# Altium footprint library Connector_Samtec_HLE_THT.PcbLib: 141 footprints (part 9 of 9)
Each footprint in its own frame and in the unit in brackets; x right, y up, seen from the top. Pads: shape width x height; smd on the part's side, far side on the other; paste and mask are expansions set on the pad; w line width, h text height; cw(c..) or ccw(c..) is an arc to the next point about the centre after c.
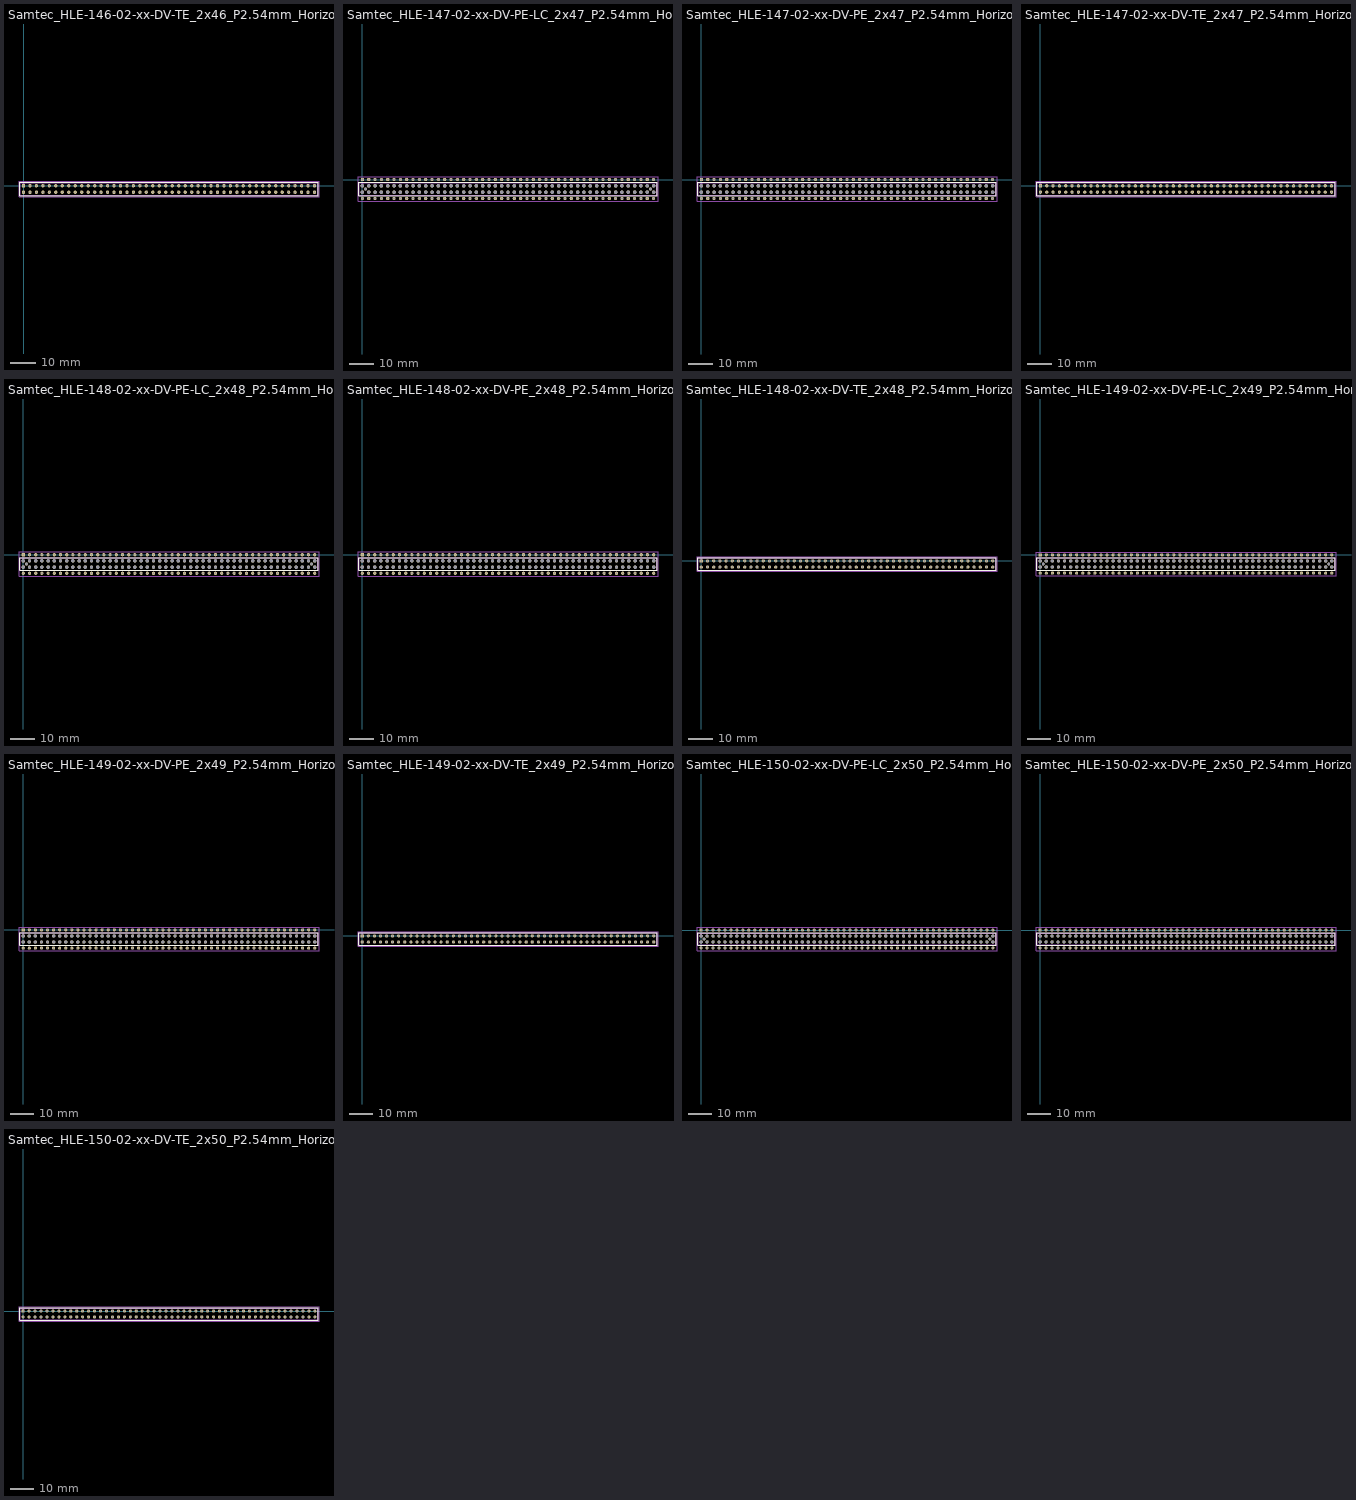
[diagram p8: the footprints below, top view; thin cyan lines are the x and y axes]

## Samtec_HLE-146-02-xx-DV-TE_2x46_P2.54mm_Horizontal [mm]
pads (92):
  rrect19% 1.31x1.31 hole 0.71: 1(0,0)
  round 1.31 hole 0.71: 2(0,-2.54) 3(2.54,0) 4(2.54,-2.54) 5(5.08,0) 6(5.08,-2.54) 7(7.62,0) 8(7.62,-2.54) 9(10.16,0) 10(10.16,-2.54) 11(12.7,0) 12(12.7,-2.54) 13(15.24,0) 14(15.24,-2.54) 15(17.78,0) 16(17.78,-2.54) 17(20.32,0) 18(20.32,-2.54) 19(22.86,0) 20(22.86,-2.54) 21(25.4,0) 22(25.4,-2.54) 23(27.94,0) 24(27.94,-2.54) 25(30.48,0) 26(30.48,-2.54) 27(33.02,0) 28(33.02,-2.54) 29(35.56,0) 30(35.56,-2.54) 31(38.1,0) 32(38.1,-2.54) 33(40.64,0) 34(40.64,-2.54) 35(43.18,0) 36(43.18,-2.54) 37(45.72,0) 38(45.72,-2.54) 39(48.26,0) 40(48.26,-2.54) 41(50.8,0) 42(50.8,-2.54) 43(53.34,0) 44(53.34,-2.54) 45(55.88,0) 46(55.88,-2.54) 47(58.42,0) 48(58.42,-2.54) 49(60.96,0) 50(60.96,-2.54) 51(63.5,0) 52(63.5,-2.54) 53(66.04,0) 54(66.04,-2.54) 55(68.58,0) 56(68.58,-2.54) 57(71.12,0) 58(71.12,-2.54) 59(73.66,0) 60(73.66,-2.54) 61(76.2,0) 62(76.2,-2.54) 63(78.74,0) 64(78.74,-2.54) 65(81.28,0) 66(81.28,-2.54) 67(83.82,0) 68(83.82,-2.54) 69(86.36,0) 70(86.36,-2.54) 71(88.9,0) 72(88.9,-2.54) 73(91.44,0) 74(91.44,-2.54) 75(93.98,0) 76(93.98,-2.54) 77(96.52,0) 78(96.52,-2.54) 79(99.06,0) 80(99.06,-2.54) 81(101.6,0) 82(101.6,-2.54) 83(104.14,0) 84(104.14,-2.54) 85(106.68,0) 86(106.68,-2.54) 87(109.22,0) 88(109.22,-2.54) 89(111.76,0) 90(111.76,-2.54) 91(114.3,0) 92(114.3,-2.54)
F.SilkS:
  lines w0.254: -1.38,-3.92 115.68,-3.92 115.68,1.38 -1.38,1.38 -1.38,-3.92
Top Assembly:
  lines w0.254: -0.5,1.27 0,0.563 0.5,1.27 ; -1.27,-3.81 115.57,-3.81 115.57,1.27 -1.27,1.27 -1.27,-3.81
  text "'.Designator'" at 53.103,-3.95 h1
Top Courtyard:
  lines w0.254: -1.77,-4.32 116.07,-4.32 116.07,1.77 -1.77,1.77 -1.77,-4.32
Top Designator:
  text ".Designator" at 49.532,-1.783 h1.52

## Samtec_HLE-147-02-xx-DV-PE-LC_2x47_P2.54mm_Horizontal [mm]
pads (190):
  rrect19% 1.31x1.31 hole 0.71: 1(0,0)
  round 1.31 hole 0.71: 2(0,-7.62) 3(2.54,0) 4(2.54,-7.62) 5(5.08,0) 6(5.08,-7.62) 7(7.62,0) 8(7.62,-7.62) 9(10.16,0) 10(10.16,-7.62) 11(12.7,0) 12(12.7,-7.62) 13(15.24,0) 14(15.24,-7.62) 15(17.78,0) 16(17.78,-7.62) 17(20.32,0) 18(20.32,-7.62) 19(22.86,0) 20(22.86,-7.62) 21(25.4,0) 22(25.4,-7.62) 23(27.94,0) 24(27.94,-7.62) 25(30.48,0) 26(30.48,-7.62) 27(33.02,0) 28(33.02,-7.62) 29(35.56,0) 30(35.56,-7.62) 31(38.1,0) 32(38.1,-7.62) 33(40.64,0) 34(40.64,-7.62) 35(43.18,0) 36(43.18,-7.62) 37(45.72,0) 38(45.72,-7.62) 39(48.26,0) 40(48.26,-7.62) 41(50.8,0) 42(50.8,-7.62) 43(53.34,0) 44(53.34,-7.62) 45(55.88,0) 46(55.88,-7.62) 47(58.42,0) 48(58.42,-7.62) 49(60.96,0) 50(60.96,-7.62) 51(63.5,0) 52(63.5,-7.62) 53(66.04,0) 54(66.04,-7.62) 55(68.58,0) 56(68.58,-7.62) 57(71.12,0) 58(71.12,-7.62) 59(73.66,0) 60(73.66,-7.62) 61(76.2,0) 62(76.2,-7.62) 63(78.74,0) 64(78.74,-7.62) 65(81.28,0) 66(81.28,-7.62) 67(83.82,0) 68(83.82,-7.62) 69(86.36,0) 70(86.36,-7.62) 71(88.9,0) 72(88.9,-7.62) 73(91.44,0) 74(91.44,-7.62) 75(93.98,0) 76(93.98,-7.62) 77(96.52,0) 78(96.52,-7.62) 79(99.06,0) 80(99.06,-7.62) 81(101.6,0) 82(101.6,-7.62) 83(104.14,0) 84(104.14,-7.62) 85(106.68,0) 86(106.68,-7.62) 87(109.22,0) 88(109.22,-7.62) 89(111.76,0) 90(111.76,-7.62) 91(114.3,0) 92(114.3,-7.62) 93(116.84,0) 94(116.84,-7.62)
  round 1.4 hole 1.4: Un1(0,-2.54) Un2(0,-5.08) Un4(2.54,-2.54) Un5(2.54,-5.08) Un6(5.08,-2.54) Un7(5.08,-5.08) Un8(7.62,-2.54) Un9(7.62,-5.08) Un10(10.16,-2.54) Un11(10.16,-5.08) Un12(12.7,-2.54) Un13(12.7,-5.08) Un14(15.24,-2.54) Un15(15.24,-5.08) Un16(17.78,-2.54) Un17(17.78,-5.08) Un18(20.32,-2.54) Un19(20.32,-5.08) Un20(22.86,-2.54) Un21(22.86,-5.08) Un22(25.4,-2.54) Un23(25.4,-5.08) Un24(27.94,-2.54) Un25(27.94,-5.08) Un26(30.48,-2.54) Un27(30.48,-5.08) Un28(33.02,-2.54) Un29(33.02,-5.08) Un30(35.56,-2.54) Un31(35.56,-5.08) Un32(38.1,-2.54) Un33(38.1,-5.08) Un34(40.64,-2.54) Un35(40.64,-5.08) Un36(43.18,-2.54) Un37(43.18,-5.08) Un38(45.72,-2.54) Un39(45.72,-5.08) Un40(48.26,-2.54) Un41(48.26,-5.08) Un42(50.8,-2.54) Un43(50.8,-5.08) Un44(53.34,-2.54) Un45(53.34,-5.08) Un46(55.88,-2.54) Un47(55.88,-5.08) Un48(58.42,-2.54) Un49(58.42,-5.08) Un50(60.96,-2.54) Un51(60.96,-5.08) Un52(63.5,-2.54) Un53(63.5,-5.08) Un54(66.04,-2.54) Un55(66.04,-5.08) Un56(68.58,-2.54) Un57(68.58,-5.08) Un58(71.12,-2.54) Un59(71.12,-5.08) Un60(73.66,-2.54) Un61(73.66,-5.08) Un62(76.2,-2.54) Un63(76.2,-5.08) Un64(78.74,-2.54) Un65(78.74,-5.08) Un66(81.28,-2.54) Un67(81.28,-5.08) Un68(83.82,-2.54) Un69(83.82,-5.08) Un70(86.36,-2.54) Un71(86.36,-5.08) Un72(88.9,-2.54) Un73(88.9,-5.08) Un74(91.44,-2.54) Un75(91.44,-5.08) Un76(93.98,-2.54) Un77(93.98,-5.08) Un78(96.52,-2.54) Un79(96.52,-5.08) Un80(99.06,-2.54) Un81(99.06,-5.08) Un82(101.6,-2.54) Un83(101.6,-5.08) Un84(104.14,-2.54) Un85(104.14,-5.08) Un86(106.68,-2.54) Un87(106.68,-5.08) Un88(109.22,-2.54) Un89(109.22,-5.08) Un90(111.76,-2.54) Un91(111.76,-5.08) Un92(114.3,-2.54) Un93(114.3,-5.08) Un95(116.84,-2.54) Un96(116.84,-5.08)
  round 1.19 hole 1.19: Un3(1.27,-3.81) Un94(115.57,-3.81)
F.SilkS:
  lines w0.254: -1.38,-6.46 118.22,-6.46 118.22,-1.16 -1.38,-1.16 -1.38,-6.46
Top Assembly:
  lines w0.254: -0.5,-1.27 0,-1.977 0.5,-1.27 ; -1.27,-6.35 118.11,-6.35 118.11,-1.27 -1.27,-1.27 -1.27,-6.35
  text "'.Designator'" at 54.373,-6.49 h1
Top Courtyard:
  lines w0.254: -1.77,-8.78 118.61,-8.78 118.61,1.16 -1.77,1.16 -1.77,-8.78
Top Designator:
  text ".Designator" at 50.802,-4.318 h1.52

## Samtec_HLE-147-02-xx-DV-PE_2x47_P2.54mm_Horizontal [mm]
pads (188):
  rrect19% 1.31x1.31 hole 0.71: 1(0,0)
  round 1.31 hole 0.71: 2(0,-7.62) 3(2.54,0) 4(2.54,-7.62) 5(5.08,0) 6(5.08,-7.62) 7(7.62,0) 8(7.62,-7.62) 9(10.16,0) 10(10.16,-7.62) 11(12.7,0) 12(12.7,-7.62) 13(15.24,0) 14(15.24,-7.62) 15(17.78,0) 16(17.78,-7.62) 17(20.32,0) 18(20.32,-7.62) 19(22.86,0) 20(22.86,-7.62) 21(25.4,0) 22(25.4,-7.62) 23(27.94,0) 24(27.94,-7.62) 25(30.48,0) 26(30.48,-7.62) 27(33.02,0) 28(33.02,-7.62) 29(35.56,0) 30(35.56,-7.62) 31(38.1,0) 32(38.1,-7.62) 33(40.64,0) 34(40.64,-7.62) 35(43.18,0) 36(43.18,-7.62) 37(45.72,0) 38(45.72,-7.62) 39(48.26,0) 40(48.26,-7.62) 41(50.8,0) 42(50.8,-7.62) 43(53.34,0) 44(53.34,-7.62) 45(55.88,0) 46(55.88,-7.62) 47(58.42,0) 48(58.42,-7.62) 49(60.96,0) 50(60.96,-7.62) 51(63.5,0) 52(63.5,-7.62) 53(66.04,0) 54(66.04,-7.62) 55(68.58,0) 56(68.58,-7.62) 57(71.12,0) 58(71.12,-7.62) 59(73.66,0) 60(73.66,-7.62) 61(76.2,0) 62(76.2,-7.62) 63(78.74,0) 64(78.74,-7.62) 65(81.28,0) 66(81.28,-7.62) 67(83.82,0) 68(83.82,-7.62) 69(86.36,0) 70(86.36,-7.62) 71(88.9,0) 72(88.9,-7.62) 73(91.44,0) 74(91.44,-7.62) 75(93.98,0) 76(93.98,-7.62) 77(96.52,0) 78(96.52,-7.62) 79(99.06,0) 80(99.06,-7.62) 81(101.6,0) 82(101.6,-7.62) 83(104.14,0) 84(104.14,-7.62) 85(106.68,0) 86(106.68,-7.62) 87(109.22,0) 88(109.22,-7.62) 89(111.76,0) 90(111.76,-7.62) 91(114.3,0) 92(114.3,-7.62) 93(116.84,0) 94(116.84,-7.62)
  round 1.4 hole 1.4: Un1(0,-2.54) Un2(0,-5.08) Un3(2.54,-2.54) Un4(2.54,-5.08) Un5(5.08,-2.54) Un6(5.08,-5.08) Un7(7.62,-2.54) Un8(7.62,-5.08) Un9(10.16,-2.54) Un10(10.16,-5.08) Un11(12.7,-2.54) Un12(12.7,-5.08) Un13(15.24,-2.54) Un14(15.24,-5.08) Un15(17.78,-2.54) Un16(17.78,-5.08) Un17(20.32,-2.54) Un18(20.32,-5.08) Un19(22.86,-2.54) Un20(22.86,-5.08) Un21(25.4,-2.54) Un22(25.4,-5.08) Un23(27.94,-2.54) Un24(27.94,-5.08) Un25(30.48,-2.54) Un26(30.48,-5.08) Un27(33.02,-2.54) Un28(33.02,-5.08) Un29(35.56,-2.54) Un30(35.56,-5.08) Un31(38.1,-2.54) Un32(38.1,-5.08) Un33(40.64,-2.54) Un34(40.64,-5.08) Un35(43.18,-2.54) Un36(43.18,-5.08) Un37(45.72,-2.54) Un38(45.72,-5.08) Un39(48.26,-2.54) Un40(48.26,-5.08) Un41(50.8,-2.54) Un42(50.8,-5.08) Un43(53.34,-2.54) Un44(53.34,-5.08) Un45(55.88,-2.54) Un46(55.88,-5.08) Un47(58.42,-2.54) Un48(58.42,-5.08) Un49(60.96,-2.54) Un50(60.96,-5.08) Un51(63.5,-2.54) Un52(63.5,-5.08) Un53(66.04,-2.54) Un54(66.04,-5.08) Un55(68.58,-2.54) Un56(68.58,-5.08) Un57(71.12,-2.54) Un58(71.12,-5.08) Un59(73.66,-2.54) Un60(73.66,-5.08) Un61(76.2,-2.54) Un62(76.2,-5.08) Un63(78.74,-2.54) Un64(78.74,-5.08) Un65(81.28,-2.54) Un66(81.28,-5.08) Un67(83.82,-2.54) Un68(83.82,-5.08) Un69(86.36,-2.54) Un70(86.36,-5.08) Un71(88.9,-2.54) Un72(88.9,-5.08) Un73(91.44,-2.54) Un74(91.44,-5.08) Un75(93.98,-2.54) Un76(93.98,-5.08) Un77(96.52,-2.54) Un78(96.52,-5.08) Un79(99.06,-2.54) Un80(99.06,-5.08) Un81(101.6,-2.54) Un82(101.6,-5.08) Un83(104.14,-2.54) Un84(104.14,-5.08) Un85(106.68,-2.54) Un86(106.68,-5.08) Un87(109.22,-2.54) Un88(109.22,-5.08) Un89(111.76,-2.54) Un90(111.76,-5.08) Un91(114.3,-2.54) Un92(114.3,-5.08) Un93(116.84,-2.54) Un94(116.84,-5.08)
F.SilkS:
  lines w0.254: -1.38,-6.46 118.22,-6.46 118.22,-1.16 -1.38,-1.16 -1.38,-6.46
Top Assembly:
  lines w0.254: -0.5,-1.27 0,-1.977 0.5,-1.27 ; -1.27,-6.35 118.11,-6.35 118.11,-1.27 -1.27,-1.27 -1.27,-6.35
  text "'.Designator'" at 54.373,-6.49 h1
Top Courtyard:
  lines w0.254: -1.77,-8.78 118.61,-8.78 118.61,1.16 -1.77,1.16 -1.77,-8.78
Top Designator:
  text ".Designator" at 50.802,-4.318 h1.52

## Samtec_HLE-147-02-xx-DV-TE_2x47_P2.54mm_Horizontal [mm]
pads (94):
  rrect19% 1.31x1.31 hole 0.71: 1(0,0)
  round 1.31 hole 0.71: 2(0,-2.54) 3(2.54,0) 4(2.54,-2.54) 5(5.08,0) 6(5.08,-2.54) 7(7.62,0) 8(7.62,-2.54) 9(10.16,0) 10(10.16,-2.54) 11(12.7,0) 12(12.7,-2.54) 13(15.24,0) 14(15.24,-2.54) 15(17.78,0) 16(17.78,-2.54) 17(20.32,0) 18(20.32,-2.54) 19(22.86,0) 20(22.86,-2.54) 21(25.4,0) 22(25.4,-2.54) 23(27.94,0) 24(27.94,-2.54) 25(30.48,0) 26(30.48,-2.54) 27(33.02,0) 28(33.02,-2.54) 29(35.56,0) 30(35.56,-2.54) 31(38.1,0) 32(38.1,-2.54) 33(40.64,0) 34(40.64,-2.54) 35(43.18,0) 36(43.18,-2.54) 37(45.72,0) 38(45.72,-2.54) 39(48.26,0) 40(48.26,-2.54) 41(50.8,0) 42(50.8,-2.54) 43(53.34,0) 44(53.34,-2.54) 45(55.88,0) 46(55.88,-2.54) 47(58.42,0) 48(58.42,-2.54) 49(60.96,0) 50(60.96,-2.54) 51(63.5,0) 52(63.5,-2.54) 53(66.04,0) 54(66.04,-2.54) 55(68.58,0) 56(68.58,-2.54) 57(71.12,0) 58(71.12,-2.54) 59(73.66,0) 60(73.66,-2.54) 61(76.2,0) 62(76.2,-2.54) 63(78.74,0) 64(78.74,-2.54) 65(81.28,0) 66(81.28,-2.54) 67(83.82,0) 68(83.82,-2.54) 69(86.36,0) 70(86.36,-2.54) 71(88.9,0) 72(88.9,-2.54) 73(91.44,0) 74(91.44,-2.54) 75(93.98,0) 76(93.98,-2.54) 77(96.52,0) 78(96.52,-2.54) 79(99.06,0) 80(99.06,-2.54) 81(101.6,0) 82(101.6,-2.54) 83(104.14,0) 84(104.14,-2.54) 85(106.68,0) 86(106.68,-2.54) 87(109.22,0) 88(109.22,-2.54) 89(111.76,0) 90(111.76,-2.54) 91(114.3,0) 92(114.3,-2.54) 93(116.84,0) 94(116.84,-2.54)
F.SilkS:
  lines w0.254: -1.38,-3.92 118.22,-3.92 118.22,1.38 -1.38,1.38 -1.38,-3.92
Top Assembly:
  lines w0.254: -0.5,1.27 0,0.563 0.5,1.27 ; -1.27,-3.81 118.11,-3.81 118.11,1.27 -1.27,1.27 -1.27,-3.81
  text "'.Designator'" at 54.373,-3.95 h1
Top Courtyard:
  lines w0.254: -1.77,-4.32 118.61,-4.32 118.61,1.77 -1.77,1.77 -1.77,-4.32
Top Designator:
  text ".Designator" at 50.802,-1.783 h1.52

## Samtec_HLE-148-02-xx-DV-PE-LC_2x48_P2.54mm_Horizontal [mm]
pads (194):
  rrect19% 1.31x1.31 hole 0.71: 1(0,0)
  round 1.31 hole 0.71: 2(0,-7.62) 3(2.54,0) 4(2.54,-7.62) 5(5.08,0) 6(5.08,-7.62) 7(7.62,0) 8(7.62,-7.62) 9(10.16,0) 10(10.16,-7.62) 11(12.7,0) 12(12.7,-7.62) 13(15.24,0) 14(15.24,-7.62) 15(17.78,0) 16(17.78,-7.62) 17(20.32,0) 18(20.32,-7.62) 19(22.86,0) 20(22.86,-7.62) 21(25.4,0) 22(25.4,-7.62) 23(27.94,0) 24(27.94,-7.62) 25(30.48,0) 26(30.48,-7.62) 27(33.02,0) 28(33.02,-7.62) 29(35.56,0) 30(35.56,-7.62) 31(38.1,0) 32(38.1,-7.62) 33(40.64,0) 34(40.64,-7.62) 35(43.18,0) 36(43.18,-7.62) 37(45.72,0) 38(45.72,-7.62) 39(48.26,0) 40(48.26,-7.62) 41(50.8,0) 42(50.8,-7.62) 43(53.34,0) 44(53.34,-7.62) 45(55.88,0) 46(55.88,-7.62) 47(58.42,0) 48(58.42,-7.62) 49(60.96,0) 50(60.96,-7.62) 51(63.5,0) 52(63.5,-7.62) 53(66.04,0) 54(66.04,-7.62) 55(68.58,0) 56(68.58,-7.62) 57(71.12,0) 58(71.12,-7.62) 59(73.66,0) 60(73.66,-7.62) 61(76.2,0) 62(76.2,-7.62) 63(78.74,0) 64(78.74,-7.62) 65(81.28,0) 66(81.28,-7.62) 67(83.82,0) 68(83.82,-7.62) 69(86.36,0) 70(86.36,-7.62) 71(88.9,0) 72(88.9,-7.62) 73(91.44,0) 74(91.44,-7.62) 75(93.98,0) 76(93.98,-7.62) 77(96.52,0) 78(96.52,-7.62) 79(99.06,0) 80(99.06,-7.62) 81(101.6,0) 82(101.6,-7.62) 83(104.14,0) 84(104.14,-7.62) 85(106.68,0) 86(106.68,-7.62) 87(109.22,0) 88(109.22,-7.62) 89(111.76,0) 90(111.76,-7.62) 91(114.3,0) 92(114.3,-7.62) 93(116.84,0) 94(116.84,-7.62) 95(119.38,0) 96(119.38,-7.62)
  round 1.4 hole 1.4: Un1(0,-2.54) Un2(0,-5.08) Un4(2.54,-2.54) Un5(2.54,-5.08) Un6(5.08,-2.54) Un7(5.08,-5.08) Un8(7.62,-2.54) Un9(7.62,-5.08) Un10(10.16,-2.54) Un11(10.16,-5.08) Un12(12.7,-2.54) Un13(12.7,-5.08) Un14(15.24,-2.54) Un15(15.24,-5.08) Un16(17.78,-2.54) Un17(17.78,-5.08) Un18(20.32,-2.54) Un19(20.32,-5.08) Un20(22.86,-2.54) Un21(22.86,-5.08) Un22(25.4,-2.54) Un23(25.4,-5.08) Un24(27.94,-2.54) Un25(27.94,-5.08) Un26(30.48,-2.54) Un27(30.48,-5.08) Un28(33.02,-2.54) Un29(33.02,-5.08) Un30(35.56,-2.54) Un31(35.56,-5.08) Un32(38.1,-2.54) Un33(38.1,-5.08) Un34(40.64,-2.54) Un35(40.64,-5.08) Un36(43.18,-2.54) Un37(43.18,-5.08) Un38(45.72,-2.54) Un39(45.72,-5.08) Un40(48.26,-2.54) Un41(48.26,-5.08) Un42(50.8,-2.54) Un43(50.8,-5.08) Un44(53.34,-2.54) Un45(53.34,-5.08) Un46(55.88,-2.54) Un47(55.88,-5.08) Un48(58.42,-2.54) Un49(58.42,-5.08) Un50(60.96,-2.54) Un51(60.96,-5.08) Un52(63.5,-2.54) Un53(63.5,-5.08) Un54(66.04,-2.54) Un55(66.04,-5.08) Un56(68.58,-2.54) Un57(68.58,-5.08) Un58(71.12,-2.54) Un59(71.12,-5.08) Un60(73.66,-2.54) Un61(73.66,-5.08) Un62(76.2,-2.54) Un63(76.2,-5.08) Un64(78.74,-2.54) Un65(78.74,-5.08) Un66(81.28,-2.54) Un67(81.28,-5.08) Un68(83.82,-2.54) Un69(83.82,-5.08) Un70(86.36,-2.54) Un71(86.36,-5.08) Un72(88.9,-2.54) Un73(88.9,-5.08) Un74(91.44,-2.54) Un75(91.44,-5.08) Un76(93.98,-2.54) Un77(93.98,-5.08) Un78(96.52,-2.54) Un79(96.52,-5.08) Un80(99.06,-2.54) Un81(99.06,-5.08) Un82(101.6,-2.54) Un83(101.6,-5.08) Un84(104.14,-2.54) Un85(104.14,-5.08) Un86(106.68,-2.54) Un87(106.68,-5.08) Un88(109.22,-2.54) Un89(109.22,-5.08) Un90(111.76,-2.54) Un91(111.76,-5.08) Un92(114.3,-2.54) Un93(114.3,-5.08) Un94(116.84,-2.54) Un95(116.84,-5.08) Un97(119.38,-2.54) Un98(119.38,-5.08)
  round 1.19 hole 1.19: Un3(1.27,-3.81) Un96(118.11,-3.81)
F.SilkS:
  lines w0.254: -1.38,-6.46 120.76,-6.46 120.76,-1.16 -1.38,-1.16 -1.38,-6.46
Top Assembly:
  lines w0.254: -0.5,-1.27 0,-1.977 0.5,-1.27 ; -1.27,-6.35 120.65,-6.35 120.65,-1.27 -1.27,-1.27 -1.27,-6.35
  text "'.Designator'" at 55.643,-6.49 h1
Top Courtyard:
  lines w0.254: -1.77,-8.78 121.15,-8.78 121.15,1.16 -1.77,1.16 -1.77,-8.78
Top Designator:
  text ".Designator" at 52.072,-4.318 h1.52

## Samtec_HLE-148-02-xx-DV-PE_2x48_P2.54mm_Horizontal [mm]
pads (192):
  rrect19% 1.31x1.31 hole 0.71: 1(0,0)
  round 1.31 hole 0.71: 2(0,-7.62) 3(2.54,0) 4(2.54,-7.62) 5(5.08,0) 6(5.08,-7.62) 7(7.62,0) 8(7.62,-7.62) 9(10.16,0) 10(10.16,-7.62) 11(12.7,0) 12(12.7,-7.62) 13(15.24,0) 14(15.24,-7.62) 15(17.78,0) 16(17.78,-7.62) 17(20.32,0) 18(20.32,-7.62) 19(22.86,0) 20(22.86,-7.62) 21(25.4,0) 22(25.4,-7.62) 23(27.94,0) 24(27.94,-7.62) 25(30.48,0) 26(30.48,-7.62) 27(33.02,0) 28(33.02,-7.62) 29(35.56,0) 30(35.56,-7.62) 31(38.1,0) 32(38.1,-7.62) 33(40.64,0) 34(40.64,-7.62) 35(43.18,0) 36(43.18,-7.62) 37(45.72,0) 38(45.72,-7.62) 39(48.26,0) 40(48.26,-7.62) 41(50.8,0) 42(50.8,-7.62) 43(53.34,0) 44(53.34,-7.62) 45(55.88,0) 46(55.88,-7.62) 47(58.42,0) 48(58.42,-7.62) 49(60.96,0) 50(60.96,-7.62) 51(63.5,0) 52(63.5,-7.62) 53(66.04,0) 54(66.04,-7.62) 55(68.58,0) 56(68.58,-7.62) 57(71.12,0) 58(71.12,-7.62) 59(73.66,0) 60(73.66,-7.62) 61(76.2,0) 62(76.2,-7.62) 63(78.74,0) 64(78.74,-7.62) 65(81.28,0) 66(81.28,-7.62) 67(83.82,0) 68(83.82,-7.62) 69(86.36,0) 70(86.36,-7.62) 71(88.9,0) 72(88.9,-7.62) 73(91.44,0) 74(91.44,-7.62) 75(93.98,0) 76(93.98,-7.62) 77(96.52,0) 78(96.52,-7.62) 79(99.06,0) 80(99.06,-7.62) 81(101.6,0) 82(101.6,-7.62) 83(104.14,0) 84(104.14,-7.62) 85(106.68,0) 86(106.68,-7.62) 87(109.22,0) 88(109.22,-7.62) 89(111.76,0) 90(111.76,-7.62) 91(114.3,0) 92(114.3,-7.62) 93(116.84,0) 94(116.84,-7.62) 95(119.38,0) 96(119.38,-7.62)
  round 1.4 hole 1.4: Un1(0,-2.54) Un2(0,-5.08) Un3(2.54,-2.54) Un4(2.54,-5.08) Un5(5.08,-2.54) Un6(5.08,-5.08) Un7(7.62,-2.54) Un8(7.62,-5.08) Un9(10.16,-2.54) Un10(10.16,-5.08) Un11(12.7,-2.54) Un12(12.7,-5.08) Un13(15.24,-2.54) Un14(15.24,-5.08) Un15(17.78,-2.54) Un16(17.78,-5.08) Un17(20.32,-2.54) Un18(20.32,-5.08) Un19(22.86,-2.54) Un20(22.86,-5.08) Un21(25.4,-2.54) Un22(25.4,-5.08) Un23(27.94,-2.54) Un24(27.94,-5.08) Un25(30.48,-2.54) Un26(30.48,-5.08) Un27(33.02,-2.54) Un28(33.02,-5.08) Un29(35.56,-2.54) Un30(35.56,-5.08) Un31(38.1,-2.54) Un32(38.1,-5.08) Un33(40.64,-2.54) Un34(40.64,-5.08) Un35(43.18,-2.54) Un36(43.18,-5.08) Un37(45.72,-2.54) Un38(45.72,-5.08) Un39(48.26,-2.54) Un40(48.26,-5.08) Un41(50.8,-2.54) Un42(50.8,-5.08) Un43(53.34,-2.54) Un44(53.34,-5.08) Un45(55.88,-2.54) Un46(55.88,-5.08) Un47(58.42,-2.54) Un48(58.42,-5.08) Un49(60.96,-2.54) Un50(60.96,-5.08) Un51(63.5,-2.54) Un52(63.5,-5.08) Un53(66.04,-2.54) Un54(66.04,-5.08) Un55(68.58,-2.54) Un56(68.58,-5.08) Un57(71.12,-2.54) Un58(71.12,-5.08) Un59(73.66,-2.54) Un60(73.66,-5.08) Un61(76.2,-2.54) Un62(76.2,-5.08) Un63(78.74,-2.54) Un64(78.74,-5.08) Un65(81.28,-2.54) Un66(81.28,-5.08) Un67(83.82,-2.54) Un68(83.82,-5.08) Un69(86.36,-2.54) Un70(86.36,-5.08) Un71(88.9,-2.54) Un72(88.9,-5.08) Un73(91.44,-2.54) Un74(91.44,-5.08) Un75(93.98,-2.54) Un76(93.98,-5.08) Un77(96.52,-2.54) Un78(96.52,-5.08) Un79(99.06,-2.54) Un80(99.06,-5.08) Un81(101.6,-2.54) Un82(101.6,-5.08) Un83(104.14,-2.54) Un84(104.14,-5.08) Un85(106.68,-2.54) Un86(106.68,-5.08) Un87(109.22,-2.54) Un88(109.22,-5.08) Un89(111.76,-2.54) Un90(111.76,-5.08) Un91(114.3,-2.54) Un92(114.3,-5.08) Un93(116.84,-2.54) Un94(116.84,-5.08) Un95(119.38,-2.54) Un96(119.38,-5.08)
F.SilkS:
  lines w0.254: -1.38,-6.46 120.76,-6.46 120.76,-1.16 -1.38,-1.16 -1.38,-6.46
Top Assembly:
  lines w0.254: -0.5,-1.27 0,-1.977 0.5,-1.27 ; -1.27,-6.35 120.65,-6.35 120.65,-1.27 -1.27,-1.27 -1.27,-6.35
  text "'.Designator'" at 55.643,-6.49 h1
Top Courtyard:
  lines w0.254: -1.77,-8.78 121.15,-8.78 121.15,1.16 -1.77,1.16 -1.77,-8.78
Top Designator:
  text ".Designator" at 52.072,-4.318 h1.52

## Samtec_HLE-148-02-xx-DV-TE_2x48_P2.54mm_Horizontal [mm]
pads (96):
  rrect19% 1.31x1.31 hole 0.71: 1(0,0)
  round 1.31 hole 0.71: 2(0,-2.54) 3(2.54,0) 4(2.54,-2.54) 5(5.08,0) 6(5.08,-2.54) 7(7.62,0) 8(7.62,-2.54) 9(10.16,0) 10(10.16,-2.54) 11(12.7,0) 12(12.7,-2.54) 13(15.24,0) 14(15.24,-2.54) 15(17.78,0) 16(17.78,-2.54) 17(20.32,0) 18(20.32,-2.54) 19(22.86,0) 20(22.86,-2.54) 21(25.4,0) 22(25.4,-2.54) 23(27.94,0) 24(27.94,-2.54) 25(30.48,0) 26(30.48,-2.54) 27(33.02,0) 28(33.02,-2.54) 29(35.56,0) 30(35.56,-2.54) 31(38.1,0) 32(38.1,-2.54) 33(40.64,0) 34(40.64,-2.54) 35(43.18,0) 36(43.18,-2.54) 37(45.72,0) 38(45.72,-2.54) 39(48.26,0) 40(48.26,-2.54) 41(50.8,0) 42(50.8,-2.54) 43(53.34,0) 44(53.34,-2.54) 45(55.88,0) 46(55.88,-2.54) 47(58.42,0) 48(58.42,-2.54) 49(60.96,0) 50(60.96,-2.54) 51(63.5,0) 52(63.5,-2.54) 53(66.04,0) 54(66.04,-2.54) 55(68.58,0) 56(68.58,-2.54) 57(71.12,0) 58(71.12,-2.54) 59(73.66,0) 60(73.66,-2.54) 61(76.2,0) 62(76.2,-2.54) 63(78.74,0) 64(78.74,-2.54) 65(81.28,0) 66(81.28,-2.54) 67(83.82,0) 68(83.82,-2.54) 69(86.36,0) 70(86.36,-2.54) 71(88.9,0) 72(88.9,-2.54) 73(91.44,0) 74(91.44,-2.54) 75(93.98,0) 76(93.98,-2.54) 77(96.52,0) 78(96.52,-2.54) 79(99.06,0) 80(99.06,-2.54) 81(101.6,0) 82(101.6,-2.54) 83(104.14,0) 84(104.14,-2.54) 85(106.68,0) 86(106.68,-2.54) 87(109.22,0) 88(109.22,-2.54) 89(111.76,0) 90(111.76,-2.54) 91(114.3,0) 92(114.3,-2.54) 93(116.84,0) 94(116.84,-2.54) 95(119.38,0) 96(119.38,-2.54)
F.SilkS:
  lines w0.254: -1.38,-3.92 120.76,-3.92 120.76,1.38 -1.38,1.38 -1.38,-3.92
Top Assembly:
  lines w0.254: -0.5,1.27 0,0.563 0.5,1.27 ; -1.27,-3.81 120.65,-3.81 120.65,1.27 -1.27,1.27 -1.27,-3.81
  text "'.Designator'" at 55.643,-3.95 h1
Top Courtyard:
  lines w0.254: -1.77,-4.32 121.15,-4.32 121.15,1.77 -1.77,1.77 -1.77,-4.32
Top Designator:
  text ".Designator" at 52.072,-1.783 h1.52

## Samtec_HLE-149-02-xx-DV-PE-LC_2x49_P2.54mm_Horizontal [mm]
pads (198):
  rrect19% 1.31x1.31 hole 0.71: 1(0,0)
  round 1.31 hole 0.71: 2(0,-7.62) 3(2.54,0) 4(2.54,-7.62) 5(5.08,0) 6(5.08,-7.62) 7(7.62,0) 8(7.62,-7.62) 9(10.16,0) 10(10.16,-7.62) 11(12.7,0) 12(12.7,-7.62) 13(15.24,0) 14(15.24,-7.62) 15(17.78,0) 16(17.78,-7.62) 17(20.32,0) 18(20.32,-7.62) 19(22.86,0) 20(22.86,-7.62) 21(25.4,0) 22(25.4,-7.62) 23(27.94,0) 24(27.94,-7.62) 25(30.48,0) 26(30.48,-7.62) 27(33.02,0) 28(33.02,-7.62) 29(35.56,0) 30(35.56,-7.62) 31(38.1,0) 32(38.1,-7.62) 33(40.64,0) 34(40.64,-7.62) 35(43.18,0) 36(43.18,-7.62) 37(45.72,0) 38(45.72,-7.62) 39(48.26,0) 40(48.26,-7.62) 41(50.8,0) 42(50.8,-7.62) 43(53.34,0) 44(53.34,-7.62) 45(55.88,0) 46(55.88,-7.62) 47(58.42,0) 48(58.42,-7.62) 49(60.96,0) 50(60.96,-7.62) 51(63.5,0) 52(63.5,-7.62) 53(66.04,0) 54(66.04,-7.62) 55(68.58,0) 56(68.58,-7.62) 57(71.12,0) 58(71.12,-7.62) 59(73.66,0) 60(73.66,-7.62) 61(76.2,0) 62(76.2,-7.62) 63(78.74,0) 64(78.74,-7.62) 65(81.28,0) 66(81.28,-7.62) 67(83.82,0) 68(83.82,-7.62) 69(86.36,0) 70(86.36,-7.62) 71(88.9,0) 72(88.9,-7.62) 73(91.44,0) 74(91.44,-7.62) 75(93.98,0) 76(93.98,-7.62) 77(96.52,0) 78(96.52,-7.62) 79(99.06,0) 80(99.06,-7.62) 81(101.6,0) 82(101.6,-7.62) 83(104.14,0) 84(104.14,-7.62) 85(106.68,0) 86(106.68,-7.62) 87(109.22,0) 88(109.22,-7.62) 89(111.76,0) 90(111.76,-7.62) 91(114.3,0) 92(114.3,-7.62) 93(116.84,0) 94(116.84,-7.62) 95(119.38,0) 96(119.38,-7.62) 97(121.92,0) 98(121.92,-7.62)
  round 1.4 hole 1.4: Un1(0,-2.54) Un2(0,-5.08) Un4(2.54,-2.54) Un5(2.54,-5.08) Un6(5.08,-2.54) Un7(5.08,-5.08) Un8(7.62,-2.54) Un9(7.62,-5.08) Un10(10.16,-2.54) Un11(10.16,-5.08) Un12(12.7,-2.54) Un13(12.7,-5.08) Un14(15.24,-2.54) Un15(15.24,-5.08) Un16(17.78,-2.54) Un17(17.78,-5.08) Un18(20.32,-2.54) Un19(20.32,-5.08) Un20(22.86,-2.54) Un21(22.86,-5.08) Un22(25.4,-2.54) Un23(25.4,-5.08) Un24(27.94,-2.54) Un25(27.94,-5.08) Un26(30.48,-2.54) Un27(30.48,-5.08) Un28(33.02,-2.54) Un29(33.02,-5.08) Un30(35.56,-2.54) Un31(35.56,-5.08) Un32(38.1,-2.54) Un33(38.1,-5.08) Un34(40.64,-2.54) Un35(40.64,-5.08) Un36(43.18,-2.54) Un37(43.18,-5.08) Un38(45.72,-2.54) Un39(45.72,-5.08) Un40(48.26,-2.54) Un41(48.26,-5.08) Un42(50.8,-2.54) Un43(50.8,-5.08) Un44(53.34,-2.54) Un45(53.34,-5.08) Un46(55.88,-2.54) Un47(55.88,-5.08) Un48(58.42,-2.54) Un49(58.42,-5.08) Un50(60.96,-2.54) Un51(60.96,-5.08) Un52(63.5,-2.54) Un53(63.5,-5.08) Un54(66.04,-2.54) Un55(66.04,-5.08) Un56(68.58,-2.54) Un57(68.58,-5.08) Un58(71.12,-2.54) Un59(71.12,-5.08) Un60(73.66,-2.54) Un61(73.66,-5.08) Un62(76.2,-2.54) Un63(76.2,-5.08) Un64(78.74,-2.54) Un65(78.74,-5.08) Un66(81.28,-2.54) Un67(81.28,-5.08) Un68(83.82,-2.54) Un69(83.82,-5.08) Un70(86.36,-2.54) Un71(86.36,-5.08) Un72(88.9,-2.54) Un73(88.9,-5.08) Un74(91.44,-2.54) Un75(91.44,-5.08) Un76(93.98,-2.54) Un77(93.98,-5.08) Un78(96.52,-2.54) Un79(96.52,-5.08) Un80(99.06,-2.54) Un81(99.06,-5.08) Un82(101.6,-2.54) Un83(101.6,-5.08) Un84(104.14,-2.54) Un85(104.14,-5.08) Un86(106.68,-2.54) Un87(106.68,-5.08) Un88(109.22,-2.54) Un89(109.22,-5.08) Un90(111.76,-2.54) Un91(111.76,-5.08) Un92(114.3,-2.54) Un93(114.3,-5.08) Un94(116.84,-2.54) Un95(116.84,-5.08) Un96(119.38,-2.54) Un97(119.38,-5.08) Un99(121.92,-2.54) Un100(121.92,-5.08)
  round 1.19 hole 1.19: Un3(1.27,-3.81) Un98(120.65,-3.81)
F.SilkS:
  lines w0.254: -1.38,-6.46 123.3,-6.46 123.3,-1.16 -1.38,-1.16 -1.38,-6.46
Top Assembly:
  lines w0.254: -0.5,-1.27 0,-1.977 0.5,-1.27 ; -1.27,-6.35 123.19,-6.35 123.19,-1.27 -1.27,-1.27 -1.27,-6.35
  text "'.Designator'" at 56.913,-6.49 h1
Top Courtyard:
  lines w0.254: -1.77,-8.78 123.7,-8.78 123.7,1.16 -1.77,1.16 -1.77,-8.78
Top Designator:
  text ".Designator" at 53.347,-4.318 h1.52

## Samtec_HLE-149-02-xx-DV-PE_2x49_P2.54mm_Horizontal [mm]
pads (196):
  rrect19% 1.31x1.31 hole 0.71: 1(0,0)
  round 1.31 hole 0.71: 2(0,-7.62) 3(2.54,0) 4(2.54,-7.62) 5(5.08,0) 6(5.08,-7.62) 7(7.62,0) 8(7.62,-7.62) 9(10.16,0) 10(10.16,-7.62) 11(12.7,0) 12(12.7,-7.62) 13(15.24,0) 14(15.24,-7.62) 15(17.78,0) 16(17.78,-7.62) 17(20.32,0) 18(20.32,-7.62) 19(22.86,0) 20(22.86,-7.62) 21(25.4,0) 22(25.4,-7.62) 23(27.94,0) 24(27.94,-7.62) 25(30.48,0) 26(30.48,-7.62) 27(33.02,0) 28(33.02,-7.62) 29(35.56,0) 30(35.56,-7.62) 31(38.1,0) 32(38.1,-7.62) 33(40.64,0) 34(40.64,-7.62) 35(43.18,0) 36(43.18,-7.62) 37(45.72,0) 38(45.72,-7.62) 39(48.26,0) 40(48.26,-7.62) 41(50.8,0) 42(50.8,-7.62) 43(53.34,0) 44(53.34,-7.62) 45(55.88,0) 46(55.88,-7.62) 47(58.42,0) 48(58.42,-7.62) 49(60.96,0) 50(60.96,-7.62) 51(63.5,0) 52(63.5,-7.62) 53(66.04,0) 54(66.04,-7.62) 55(68.58,0) 56(68.58,-7.62) 57(71.12,0) 58(71.12,-7.62) 59(73.66,0) 60(73.66,-7.62) 61(76.2,0) 62(76.2,-7.62) 63(78.74,0) 64(78.74,-7.62) 65(81.28,0) 66(81.28,-7.62) 67(83.82,0) 68(83.82,-7.62) 69(86.36,0) 70(86.36,-7.62) 71(88.9,0) 72(88.9,-7.62) 73(91.44,0) 74(91.44,-7.62) 75(93.98,0) 76(93.98,-7.62) 77(96.52,0) 78(96.52,-7.62) 79(99.06,0) 80(99.06,-7.62) 81(101.6,0) 82(101.6,-7.62) 83(104.14,0) 84(104.14,-7.62) 85(106.68,0) 86(106.68,-7.62) 87(109.22,0) 88(109.22,-7.62) 89(111.76,0) 90(111.76,-7.62) 91(114.3,0) 92(114.3,-7.62) 93(116.84,0) 94(116.84,-7.62) 95(119.38,0) 96(119.38,-7.62) 97(121.92,0) 98(121.92,-7.62)
  round 1.4 hole 1.4: Un1(0,-2.54) Un2(0,-5.08) Un3(2.54,-2.54) Un4(2.54,-5.08) Un5(5.08,-2.54) Un6(5.08,-5.08) Un7(7.62,-2.54) Un8(7.62,-5.08) Un9(10.16,-2.54) Un10(10.16,-5.08) Un11(12.7,-2.54) Un12(12.7,-5.08) Un13(15.24,-2.54) Un14(15.24,-5.08) Un15(17.78,-2.54) Un16(17.78,-5.08) Un17(20.32,-2.54) Un18(20.32,-5.08) Un19(22.86,-2.54) Un20(22.86,-5.08) Un21(25.4,-2.54) Un22(25.4,-5.08) Un23(27.94,-2.54) Un24(27.94,-5.08) Un25(30.48,-2.54) Un26(30.48,-5.08) Un27(33.02,-2.54) Un28(33.02,-5.08) Un29(35.56,-2.54) Un30(35.56,-5.08) Un31(38.1,-2.54) Un32(38.1,-5.08) Un33(40.64,-2.54) Un34(40.64,-5.08) Un35(43.18,-2.54) Un36(43.18,-5.08) Un37(45.72,-2.54) Un38(45.72,-5.08) Un39(48.26,-2.54) Un40(48.26,-5.08) Un41(50.8,-2.54) Un42(50.8,-5.08) Un43(53.34,-2.54) Un44(53.34,-5.08) Un45(55.88,-2.54) Un46(55.88,-5.08) Un47(58.42,-2.54) Un48(58.42,-5.08) Un49(60.96,-2.54) Un50(60.96,-5.08) Un51(63.5,-2.54) Un52(63.5,-5.08) Un53(66.04,-2.54) Un54(66.04,-5.08) Un55(68.58,-2.54) Un56(68.58,-5.08) Un57(71.12,-2.54) Un58(71.12,-5.08) Un59(73.66,-2.54) Un60(73.66,-5.08) Un61(76.2,-2.54) Un62(76.2,-5.08) Un63(78.74,-2.54) Un64(78.74,-5.08) Un65(81.28,-2.54) Un66(81.28,-5.08) Un67(83.82,-2.54) Un68(83.82,-5.08) Un69(86.36,-2.54) Un70(86.36,-5.08) Un71(88.9,-2.54) Un72(88.9,-5.08) Un73(91.44,-2.54) Un74(91.44,-5.08) Un75(93.98,-2.54) Un76(93.98,-5.08) Un77(96.52,-2.54) Un78(96.52,-5.08) Un79(99.06,-2.54) Un80(99.06,-5.08) Un81(101.6,-2.54) Un82(101.6,-5.08) Un83(104.14,-2.54) Un84(104.14,-5.08) Un85(106.68,-2.54) Un86(106.68,-5.08) Un87(109.22,-2.54) Un88(109.22,-5.08) Un89(111.76,-2.54) Un90(111.76,-5.08) Un91(114.3,-2.54) Un92(114.3,-5.08) Un93(116.84,-2.54) Un94(116.84,-5.08) Un95(119.38,-2.54) Un96(119.38,-5.08) Un97(121.92,-2.54) Un98(121.92,-5.08)
F.SilkS:
  lines w0.254: -1.38,-6.46 123.3,-6.46 123.3,-1.16 -1.38,-1.16 -1.38,-6.46
Top Assembly:
  lines w0.254: -0.5,-1.27 0,-1.977 0.5,-1.27 ; -1.27,-6.35 123.19,-6.35 123.19,-1.27 -1.27,-1.27 -1.27,-6.35
  text "'.Designator'" at 56.913,-6.49 h1
Top Courtyard:
  lines w0.254: -1.77,-8.78 123.7,-8.78 123.7,1.16 -1.77,1.16 -1.77,-8.78
Top Designator:
  text ".Designator" at 53.347,-4.318 h1.52

## Samtec_HLE-149-02-xx-DV-TE_2x49_P2.54mm_Horizontal [mm]
pads (98):
  rrect19% 1.31x1.31 hole 0.71: 1(0,0)
  round 1.31 hole 0.71: 2(0,-2.54) 3(2.54,0) 4(2.54,-2.54) 5(5.08,0) 6(5.08,-2.54) 7(7.62,0) 8(7.62,-2.54) 9(10.16,0) 10(10.16,-2.54) 11(12.7,0) 12(12.7,-2.54) 13(15.24,0) 14(15.24,-2.54) 15(17.78,0) 16(17.78,-2.54) 17(20.32,0) 18(20.32,-2.54) 19(22.86,0) 20(22.86,-2.54) 21(25.4,0) 22(25.4,-2.54) 23(27.94,0) 24(27.94,-2.54) 25(30.48,0) 26(30.48,-2.54) 27(33.02,0) 28(33.02,-2.54) 29(35.56,0) 30(35.56,-2.54) 31(38.1,0) 32(38.1,-2.54) 33(40.64,0) 34(40.64,-2.54) 35(43.18,0) 36(43.18,-2.54) 37(45.72,0) 38(45.72,-2.54) 39(48.26,0) 40(48.26,-2.54) 41(50.8,0) 42(50.8,-2.54) 43(53.34,0) 44(53.34,-2.54) 45(55.88,0) 46(55.88,-2.54) 47(58.42,0) 48(58.42,-2.54) 49(60.96,0) 50(60.96,-2.54) 51(63.5,0) 52(63.5,-2.54) 53(66.04,0) 54(66.04,-2.54) 55(68.58,0) 56(68.58,-2.54) 57(71.12,0) 58(71.12,-2.54) 59(73.66,0) 60(73.66,-2.54) 61(76.2,0) 62(76.2,-2.54) 63(78.74,0) 64(78.74,-2.54) 65(81.28,0) 66(81.28,-2.54) 67(83.82,0) 68(83.82,-2.54) 69(86.36,0) 70(86.36,-2.54) 71(88.9,0) 72(88.9,-2.54) 73(91.44,0) 74(91.44,-2.54) 75(93.98,0) 76(93.98,-2.54) 77(96.52,0) 78(96.52,-2.54) 79(99.06,0) 80(99.06,-2.54) 81(101.6,0) 82(101.6,-2.54) 83(104.14,0) 84(104.14,-2.54) 85(106.68,0) 86(106.68,-2.54) 87(109.22,0) 88(109.22,-2.54) 89(111.76,0) 90(111.76,-2.54) 91(114.3,0) 92(114.3,-2.54) 93(116.84,0) 94(116.84,-2.54) 95(119.38,0) 96(119.38,-2.54) 97(121.92,0) 98(121.92,-2.54)
F.SilkS:
  lines w0.254: -1.38,-3.92 123.3,-3.92 123.3,1.38 -1.38,1.38 -1.38,-3.92
Top Assembly:
  lines w0.254: -0.5,1.27 0,0.563 0.5,1.27 ; -1.27,-3.81 123.19,-3.81 123.19,1.27 -1.27,1.27 -1.27,-3.81
  text "'.Designator'" at 56.913,-3.95 h1
Top Courtyard:
  lines w0.254: -1.77,-4.32 123.7,-4.32 123.7,1.77 -1.77,1.77 -1.77,-4.32
Top Designator:
  text ".Designator" at 53.347,-1.783 h1.52

## Samtec_HLE-150-02-xx-DV-PE-LC_2x50_P2.54mm_Horizontal [mm]
pads (202):
  rrect19% 1.31x1.31 hole 0.71: 1(0,0)
  round 1.31 hole 0.71: 2(0,-7.62) 3(2.54,0) 4(2.54,-7.62) 5(5.08,0) 6(5.08,-7.62) 7(7.62,0) 8(7.62,-7.62) 9(10.16,0) 10(10.16,-7.62) 11(12.7,0) 12(12.7,-7.62) 13(15.24,0) 14(15.24,-7.62) 15(17.78,0) 16(17.78,-7.62) 17(20.32,0) 18(20.32,-7.62) 19(22.86,0) 20(22.86,-7.62) 21(25.4,0) 22(25.4,-7.62) 23(27.94,0) 24(27.94,-7.62) 25(30.48,0) 26(30.48,-7.62) 27(33.02,0) 28(33.02,-7.62) 29(35.56,0) 30(35.56,-7.62) 31(38.1,0) 32(38.1,-7.62) 33(40.64,0) 34(40.64,-7.62) 35(43.18,0) 36(43.18,-7.62) 37(45.72,0) 38(45.72,-7.62) 39(48.26,0) 40(48.26,-7.62) 41(50.8,0) 42(50.8,-7.62) 43(53.34,0) 44(53.34,-7.62) 45(55.88,0) 46(55.88,-7.62) 47(58.42,0) 48(58.42,-7.62) 49(60.96,0) 50(60.96,-7.62) 51(63.5,0) 52(63.5,-7.62) 53(66.04,0) 54(66.04,-7.62) 55(68.58,0) 56(68.58,-7.62) 57(71.12,0) 58(71.12,-7.62) 59(73.66,0) 60(73.66,-7.62) 61(76.2,0) 62(76.2,-7.62) 63(78.74,0) 64(78.74,-7.62) 65(81.28,0) 66(81.28,-7.62) 67(83.82,0) 68(83.82,-7.62) 69(86.36,0) 70(86.36,-7.62) 71(88.9,0) 72(88.9,-7.62) 73(91.44,0) 74(91.44,-7.62) 75(93.98,0) 76(93.98,-7.62) 77(96.52,0) 78(96.52,-7.62) 79(99.06,0) 80(99.06,-7.62) 81(101.6,0) 82(101.6,-7.62) 83(104.14,0) 84(104.14,-7.62) 85(106.68,0) 86(106.68,-7.62) 87(109.22,0) 88(109.22,-7.62) 89(111.76,0) 90(111.76,-7.62) 91(114.3,0) 92(114.3,-7.62) 93(116.84,0) 94(116.84,-7.62) 95(119.38,0) 96(119.38,-7.62) 97(121.92,0) 98(121.92,-7.62) 99(124.46,0) 100(124.46,-7.62)
  round 1.4 hole 1.4: Un1(0,-2.54) Un2(0,-5.08) Un4(2.54,-2.54) Un5(2.54,-5.08) Un6(5.08,-2.54) Un7(5.08,-5.08) Un8(7.62,-2.54) Un9(7.62,-5.08) Un10(10.16,-2.54) Un11(10.16,-5.08) Un12(12.7,-2.54) Un13(12.7,-5.08) Un14(15.24,-2.54) Un15(15.24,-5.08) Un16(17.78,-2.54) Un17(17.78,-5.08) Un18(20.32,-2.54) Un19(20.32,-5.08) Un20(22.86,-2.54) Un21(22.86,-5.08) Un22(25.4,-2.54) Un23(25.4,-5.08) Un24(27.94,-2.54) Un25(27.94,-5.08) Un26(30.48,-2.54) Un27(30.48,-5.08) Un28(33.02,-2.54) Un29(33.02,-5.08) Un30(35.56,-2.54) Un31(35.56,-5.08) Un32(38.1,-2.54) Un33(38.1,-5.08) Un34(40.64,-2.54) Un35(40.64,-5.08) Un36(43.18,-2.54) Un37(43.18,-5.08) Un38(45.72,-2.54) Un39(45.72,-5.08) Un40(48.26,-2.54) Un41(48.26,-5.08) Un42(50.8,-2.54) Un43(50.8,-5.08) Un44(53.34,-2.54) Un45(53.34,-5.08) Un46(55.88,-2.54) Un47(55.88,-5.08) Un48(58.42,-2.54) Un49(58.42,-5.08) Un50(60.96,-2.54) Un51(60.96,-5.08) Un52(63.5,-2.54) Un53(63.5,-5.08) Un54(66.04,-2.54) Un55(66.04,-5.08) Un56(68.58,-2.54) Un57(68.58,-5.08) Un58(71.12,-2.54) Un59(71.12,-5.08) Un60(73.66,-2.54) Un61(73.66,-5.08) Un62(76.2,-2.54) Un63(76.2,-5.08) Un64(78.74,-2.54) Un65(78.74,-5.08) Un66(81.28,-2.54) Un67(81.28,-5.08) Un68(83.82,-2.54) Un69(83.82,-5.08) Un70(86.36,-2.54) Un71(86.36,-5.08) Un72(88.9,-2.54) Un73(88.9,-5.08) Un74(91.44,-2.54) Un75(91.44,-5.08) Un76(93.98,-2.54) Un77(93.98,-5.08) Un78(96.52,-2.54) Un79(96.52,-5.08) Un80(99.06,-2.54) Un81(99.06,-5.08) Un82(101.6,-2.54) Un83(101.6,-5.08) Un84(104.14,-2.54) Un85(104.14,-5.08) Un86(106.68,-2.54) Un87(106.68,-5.08) Un88(109.22,-2.54) Un89(109.22,-5.08) Un90(111.76,-2.54) Un91(111.76,-5.08) Un92(114.3,-2.54) Un93(114.3,-5.08) Un94(116.84,-2.54) Un95(116.84,-5.08) Un96(119.38,-2.54) Un97(119.38,-5.08) Un98(121.92,-2.54) Un99(121.92,-5.08) Un101(124.46,-2.54) Un102(124.46,-5.08)
  round 1.19 hole 1.19: Un3(1.27,-3.81) Un100(123.19,-3.81)
F.SilkS:
  lines w0.254: -1.38,-6.46 125.84,-6.46 125.84,-1.16 -1.38,-1.16 -1.38,-6.46
Top Assembly:
  lines w0.254: -0.5,-1.27 0,-1.977 0.5,-1.27 ; -1.27,-6.35 125.73,-6.35 125.73,-1.27 -1.27,-1.27 -1.27,-6.35
  text "'.Designator'" at 58.183,-6.49 h1
Top Courtyard:
  lines w0.254: -1.77,-8.78 126.23,-8.78 126.23,1.16 -1.77,1.16 -1.77,-8.78
Top Designator:
  text ".Designator" at 54.612,-4.318 h1.52

## Samtec_HLE-150-02-xx-DV-PE_2x50_P2.54mm_Horizontal [mm]
pads (200):
  rrect19% 1.31x1.31 hole 0.71: 1(0,0)
  round 1.31 hole 0.71: 2(0,-7.62) 3(2.54,0) 4(2.54,-7.62) 5(5.08,0) 6(5.08,-7.62) 7(7.62,0) 8(7.62,-7.62) 9(10.16,0) 10(10.16,-7.62) 11(12.7,0) 12(12.7,-7.62) 13(15.24,0) 14(15.24,-7.62) 15(17.78,0) 16(17.78,-7.62) 17(20.32,0) 18(20.32,-7.62) 19(22.86,0) 20(22.86,-7.62) 21(25.4,0) 22(25.4,-7.62) 23(27.94,0) 24(27.94,-7.62) 25(30.48,0) 26(30.48,-7.62) 27(33.02,0) 28(33.02,-7.62) 29(35.56,0) 30(35.56,-7.62) 31(38.1,0) 32(38.1,-7.62) 33(40.64,0) 34(40.64,-7.62) 35(43.18,0) 36(43.18,-7.62) 37(45.72,0) 38(45.72,-7.62) 39(48.26,0) 40(48.26,-7.62) 41(50.8,0) 42(50.8,-7.62) 43(53.34,0) 44(53.34,-7.62) 45(55.88,0) 46(55.88,-7.62) 47(58.42,0) 48(58.42,-7.62) 49(60.96,0) 50(60.96,-7.62) 51(63.5,0) 52(63.5,-7.62) 53(66.04,0) 54(66.04,-7.62) 55(68.58,0) 56(68.58,-7.62) 57(71.12,0) 58(71.12,-7.62) 59(73.66,0) 60(73.66,-7.62) 61(76.2,0) 62(76.2,-7.62) 63(78.74,0) 64(78.74,-7.62) 65(81.28,0) 66(81.28,-7.62) 67(83.82,0) 68(83.82,-7.62) 69(86.36,0) 70(86.36,-7.62) 71(88.9,0) 72(88.9,-7.62) 73(91.44,0) 74(91.44,-7.62) 75(93.98,0) 76(93.98,-7.62) 77(96.52,0) 78(96.52,-7.62) 79(99.06,0) 80(99.06,-7.62) 81(101.6,0) 82(101.6,-7.62) 83(104.14,0) 84(104.14,-7.62) 85(106.68,0) 86(106.68,-7.62) 87(109.22,0) 88(109.22,-7.62) 89(111.76,0) 90(111.76,-7.62) 91(114.3,0) 92(114.3,-7.62) 93(116.84,0) 94(116.84,-7.62) 95(119.38,0) 96(119.38,-7.62) 97(121.92,0) 98(121.92,-7.62) 99(124.46,0) 100(124.46,-7.62)
  round 1.4 hole 1.4: Un1(0,-2.54) Un2(0,-5.08) Un3(2.54,-2.54) Un4(2.54,-5.08) Un5(5.08,-2.54) Un6(5.08,-5.08) Un7(7.62,-2.54) Un8(7.62,-5.08) Un9(10.16,-2.54) Un10(10.16,-5.08) Un11(12.7,-2.54) Un12(12.7,-5.08) Un13(15.24,-2.54) Un14(15.24,-5.08) Un15(17.78,-2.54) Un16(17.78,-5.08) Un17(20.32,-2.54) Un18(20.32,-5.08) Un19(22.86,-2.54) Un20(22.86,-5.08) Un21(25.4,-2.54) Un22(25.4,-5.08) Un23(27.94,-2.54) Un24(27.94,-5.08) Un25(30.48,-2.54) Un26(30.48,-5.08) Un27(33.02,-2.54) Un28(33.02,-5.08) Un29(35.56,-2.54) Un30(35.56,-5.08) Un31(38.1,-2.54) Un32(38.1,-5.08) Un33(40.64,-2.54) Un34(40.64,-5.08) Un35(43.18,-2.54) Un36(43.18,-5.08) Un37(45.72,-2.54) Un38(45.72,-5.08) Un39(48.26,-2.54) Un40(48.26,-5.08) Un41(50.8,-2.54) Un42(50.8,-5.08) Un43(53.34,-2.54) Un44(53.34,-5.08) Un45(55.88,-2.54) Un46(55.88,-5.08) Un47(58.42,-2.54) Un48(58.42,-5.08) Un49(60.96,-2.54) Un50(60.96,-5.08) Un51(63.5,-2.54) Un52(63.5,-5.08) Un53(66.04,-2.54) Un54(66.04,-5.08) Un55(68.58,-2.54) Un56(68.58,-5.08) Un57(71.12,-2.54) Un58(71.12,-5.08) Un59(73.66,-2.54) Un60(73.66,-5.08) Un61(76.2,-2.54) Un62(76.2,-5.08) Un63(78.74,-2.54) Un64(78.74,-5.08) Un65(81.28,-2.54) Un66(81.28,-5.08) Un67(83.82,-2.54) Un68(83.82,-5.08) Un69(86.36,-2.54) Un70(86.36,-5.08) Un71(88.9,-2.54) Un72(88.9,-5.08) Un73(91.44,-2.54) Un74(91.44,-5.08) Un75(93.98,-2.54) Un76(93.98,-5.08) Un77(96.52,-2.54) Un78(96.52,-5.08) Un79(99.06,-2.54) Un80(99.06,-5.08) Un81(101.6,-2.54) Un82(101.6,-5.08) Un83(104.14,-2.54) Un84(104.14,-5.08) Un85(106.68,-2.54) Un86(106.68,-5.08) Un87(109.22,-2.54) Un88(109.22,-5.08) Un89(111.76,-2.54) Un90(111.76,-5.08) Un91(114.3,-2.54) Un92(114.3,-5.08) Un93(116.84,-2.54) Un94(116.84,-5.08) Un95(119.38,-2.54) Un96(119.38,-5.08) Un97(121.92,-2.54) Un98(121.92,-5.08) Un99(124.46,-2.54) Un100(124.46,-5.08)
F.SilkS:
  lines w0.254: -1.38,-6.46 125.84,-6.46 125.84,-1.16 -1.38,-1.16 -1.38,-6.46
Top Assembly:
  lines w0.254: -0.5,-1.27 0,-1.977 0.5,-1.27 ; -1.27,-6.35 125.73,-6.35 125.73,-1.27 -1.27,-1.27 -1.27,-6.35
  text "'.Designator'" at 58.183,-6.49 h1
Top Courtyard:
  lines w0.254: -1.77,-8.78 126.23,-8.78 126.23,1.16 -1.77,1.16 -1.77,-8.78
Top Designator:
  text ".Designator" at 54.612,-4.318 h1.52

## Samtec_HLE-150-02-xx-DV-TE_2x50_P2.54mm_Horizontal [mm]
pads (100):
  rrect19% 1.31x1.31 hole 0.71: 1(0,0)
  round 1.31 hole 0.71: 2(0,-2.54) 3(2.54,0) 4(2.54,-2.54) 5(5.08,0) 6(5.08,-2.54) 7(7.62,0) 8(7.62,-2.54) 9(10.16,0) 10(10.16,-2.54) 11(12.7,0) 12(12.7,-2.54) 13(15.24,0) 14(15.24,-2.54) 15(17.78,0) 16(17.78,-2.54) 17(20.32,0) 18(20.32,-2.54) 19(22.86,0) 20(22.86,-2.54) 21(25.4,0) 22(25.4,-2.54) 23(27.94,0) 24(27.94,-2.54) 25(30.48,0) 26(30.48,-2.54) 27(33.02,0) 28(33.02,-2.54) 29(35.56,0) 30(35.56,-2.54) 31(38.1,0) 32(38.1,-2.54) 33(40.64,0) 34(40.64,-2.54) 35(43.18,0) 36(43.18,-2.54) 37(45.72,0) 38(45.72,-2.54) 39(48.26,0) 40(48.26,-2.54) 41(50.8,0) 42(50.8,-2.54) 43(53.34,0) 44(53.34,-2.54) 45(55.88,0) 46(55.88,-2.54) 47(58.42,0) 48(58.42,-2.54) 49(60.96,0) 50(60.96,-2.54) 51(63.5,0) 52(63.5,-2.54) 53(66.04,0) 54(66.04,-2.54) 55(68.58,0) 56(68.58,-2.54) 57(71.12,0) 58(71.12,-2.54) 59(73.66,0) 60(73.66,-2.54) 61(76.2,0) 62(76.2,-2.54) 63(78.74,0) 64(78.74,-2.54) 65(81.28,0) 66(81.28,-2.54) 67(83.82,0) 68(83.82,-2.54) 69(86.36,0) 70(86.36,-2.54) 71(88.9,0) 72(88.9,-2.54) 73(91.44,0) 74(91.44,-2.54) 75(93.98,0) 76(93.98,-2.54) 77(96.52,0) 78(96.52,-2.54) 79(99.06,0) 80(99.06,-2.54) 81(101.6,0) 82(101.6,-2.54) 83(104.14,0) 84(104.14,-2.54) 85(106.68,0) 86(106.68,-2.54) 87(109.22,0) 88(109.22,-2.54) 89(111.76,0) 90(111.76,-2.54) 91(114.3,0) 92(114.3,-2.54) 93(116.84,0) 94(116.84,-2.54) 95(119.38,0) 96(119.38,-2.54) 97(121.92,0) 98(121.92,-2.54) 99(124.46,0) 100(124.46,-2.54)
F.SilkS:
  lines w0.254: -1.38,-3.92 125.84,-3.92 125.84,1.38 -1.38,1.38 -1.38,-3.92
Top Assembly:
  lines w0.254: -0.5,1.27 0,0.563 0.5,1.27 ; -1.27,-3.81 125.73,-3.81 125.73,1.27 -1.27,1.27 -1.27,-3.81
  text "'.Designator'" at 58.183,-3.95 h1
Top Courtyard:
  lines w0.254: -1.77,-4.32 126.23,-4.32 126.23,1.77 -1.77,1.77 -1.77,-4.32
Top Designator:
  text ".Designator" at 54.612,-1.783 h1.52